# EAGLE library part LTC2400CS8PBF (library SquantorLinearTechnology)
ADC
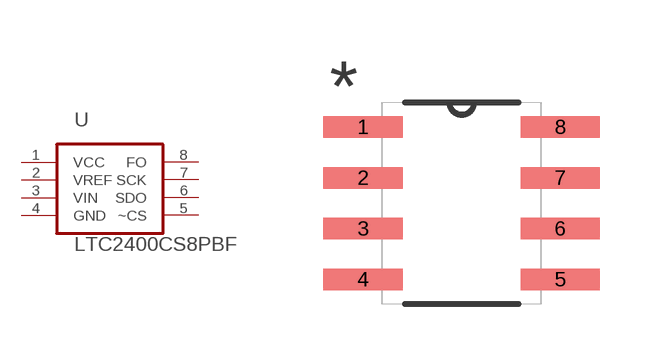
[diagram p5: symbol with the pads of SOIC127P600X175-8N; footprint SOIC127P600X175-8N]

Designator prefix U

## LTC2400CS8PBF (MPN: LTC2400CS8#PBF; OC_FARNELL: 1663682; OC_NEWARK: 56M5400; PACKAGE: SOIC-8; SUPPLIER: Linear Technology)  [SOIC127P600X175-8N]
1  VCC  pwr
2  VREF  in
3  VIN  in
4  GND  pas
5  ~CS  in
6  SDO  out
7  SCK  in
8  FO  in

## Footprint SOIC127P600X175-8N (pad centres in mm)
smd 1.981 x 0.533: 1 -2.464,1.905; 2 -2.464,0.635; 3 -2.464,-0.635; 4 -2.464,-1.905; 5 2.464,-1.905; 6 2.464,-0.635; 7 2.464,0.635; 8 2.464,1.905